# EAGLE library part MCP2562 (library user_ic)
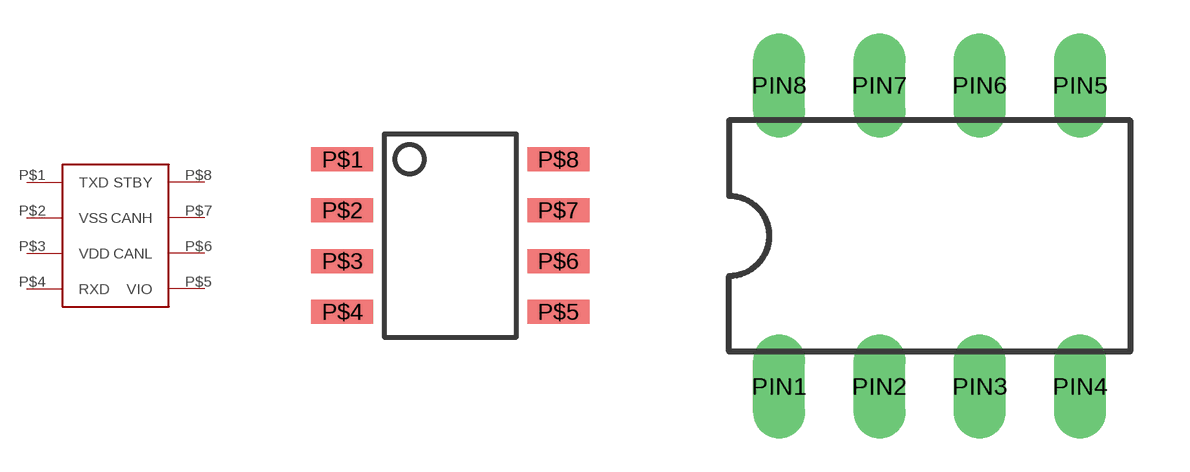
[diagram p16: symbol with the pads of SOIC8; footprints SOIC8, DIL8]

Designator prefix IC

## MCP2562MCP2561-SN  [SOIC8]
P$1  TXD
P$2  VSS
P$3  VDD
P$4  RXD
P$5  VIO
P$6  CANL
P$7  CANH
P$8  STBY

## MCP2562  [DIL8]
PIN1  TXD
PIN2  VSS
PIN3  VDD
PIN4  RXD
PIN5  VIO
PIN6  CANL
PIN7  CANH
PIN8  STBY

## Footprint SOIC8 (pad centres in mm)
時々SOPと表記されることがある。 幅が異なるため確認をすること
smd 1.55 x 0.6: P$1 -2.7,1.905; P$2 -2.7,0.635; P$3 -2.7,-0.635; P$4 -2.7,-1.905; P$5 2.7,-1.905; P$6 2.7,-0.635; P$7 2.7,0.635; P$8 2.7,1.905

## Footprint DIL8 (pad centres in mm)
Dual In Line Package
drill 0.813 long: PIN1 -3.81,-3.81; PIN2 -1.27,-3.81; PIN3 1.27,-3.81; PIN4 3.81,-3.81; PIN5 3.81,3.81; PIN6 1.27,3.81; PIN7 -1.27,3.81; PIN8 -3.81,3.81